# Altium integrated library CL31A226KOCLFNC.IntLib: 1 symbol
Pins are listed as number, name and electrical type; pins without a type are passive.

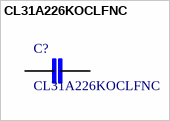
[diagram p0: symbol CL31A226KOCLFNC]

## CL31A226KOCLFNC
designator C?
Cap Ceramic 22uF 16V X5R 10% SMD 1206 85Â°C Paper T/R; MF: Samsung; SnapEDA_Link: https://www.snapeda.com/parts/CL31A226KOCLFNC/Samsung%20Electro-Mechanics/view-part/?ref=snap; Availability: Good; MP: CL31A226KOCLFNC; Package: 1206 Samsung; Price: 0.24 USD; Value: *
footprint CAPC3216X100N
pins: 1, 2